# EAGLE library part MCP4728 (library _RoweTel)
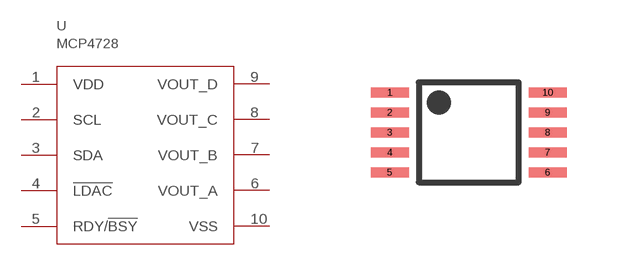
[diagram p43: symbol with the pads of MSOP-10; footprint MSOP-10]

Designator prefix U

## MCP4728  [MSOP-10]
1  VDD
2  SCL
3  SDA
4  !LDAC
5  RDY/!BSY
6  VOUT_A
7  VOUT_B
8  VOUT_C
9  VOUT_D
10  VSS

## Footprint MSOP-10 (pad centres in mm)
smd 0.95 x 0.25: 1 -1.975,1; 2 -1.975,0.5; 3 -1.975,0; 4 -1.975,-0.5; 5 -1.975,-1; 6 1.975,-1; 7 1.975,-0.5; 8 1.975,0; 9 1.975,0.5; 10 1.975,1